# Altium integrated library Microchip Power Mgt MOSFET Driver.IntLib: 445 symbols (part 6 of 10)
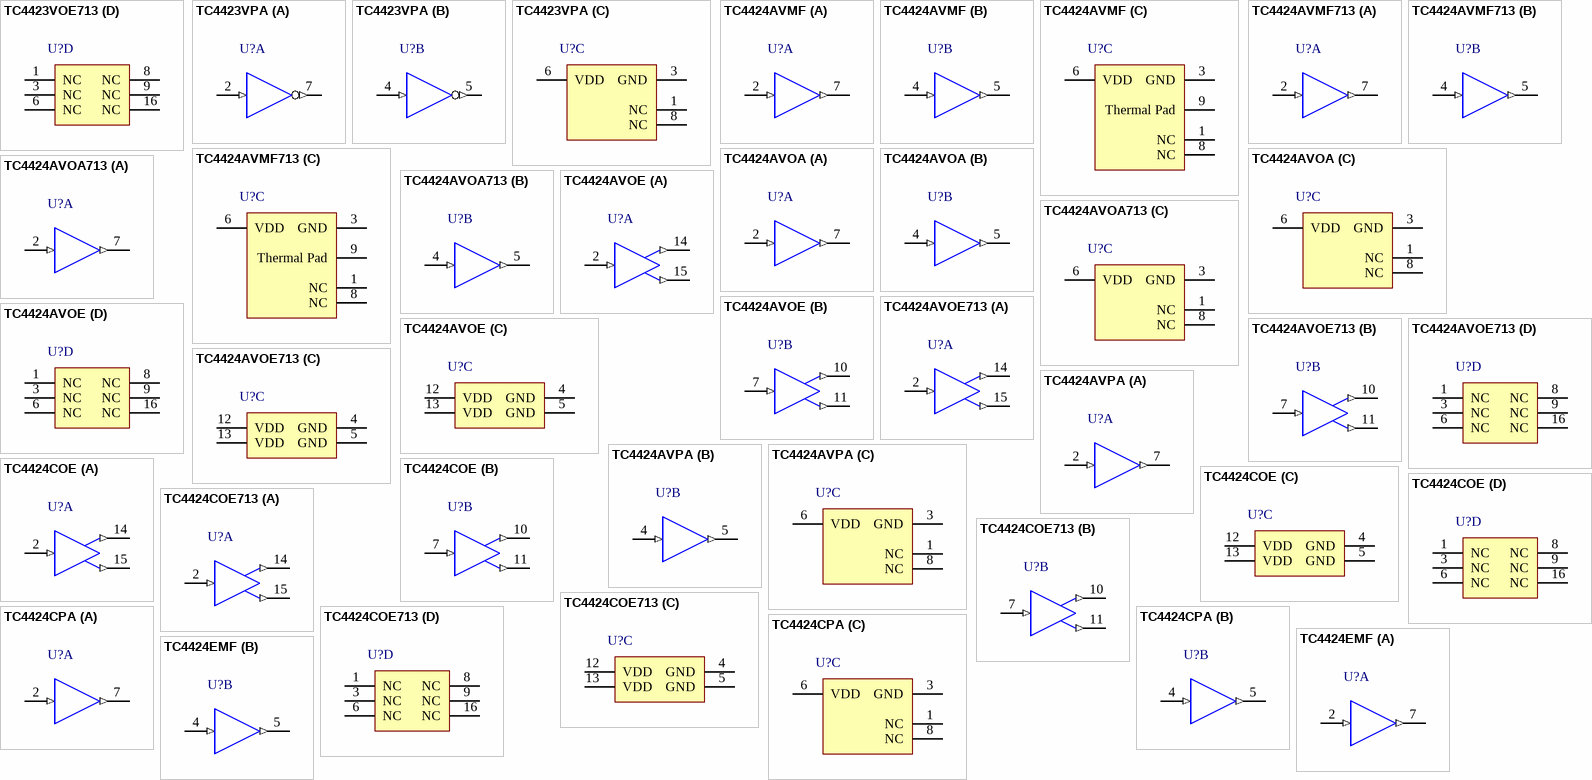
[diagram p33: symbols TC4423VOE713 to TC4424EMF]

## TC4424AVOA
designator U?
3A Dual High-Speed Power MOSFET Drivers, Non Inverting, Extended Temperature; Published: 29-Jan-2009; DatasheetVersion: revB, Apr-2007; PackageVersion: revAW, Oct-2008; PackageReference: SOIC-OA8; Publisher: Altium Limited; PackageDescription: 8-Lead Plastic Small Outline (OA) - Narrow, 3.90mm Body [SOIC]; Code_IPC: SOIC127P600-8; ComponentLink1Description: Manufacturer Link; ComponentLink1URL: http://www.microchip.com; ComponentLink2Description: Datasheet; ComponentLink2URL: http://ww1.microchip.com/downloads/en/DeviceDoc/21998b.pdf; ComponentLink3Description: Packaging Specification; ComponentLink3URL: http://ww1.microchip.com/downloads/en/PackagingSpec/00049AW.pdf
footprint SOIC-OA8_N (SOIC, 8-Leads, Body 4.9x3.9mm, Pitch 1.27mm, IPC Medium Density)
footprint SOIC-OA8_L (SOIC, 8-Leads, Body 4.9x3.9mm, Pitch 1.27mm, IPC High Density)
footprint SOIC-OA8_M (SOIC, 8-Leads, Body 4.9x3.9mm, Pitch 1.27mm, IPC Low Density)
part A pins: 2 INA (in), 7 OUTA (out)
part B pins: 4 INB (in), 5 OUTB (out)
part C pins: 1 NC, 3 GND (power), 6 VDD (power), 8 NC

## TC4424AVOA713
designator U?
3A Dual High-Speed Power MOSFET Drivers, Non Inverting, Extended Temperature, Tape and Reel; Published: 29-Jan-2009; DatasheetVersion: revB, Apr-2007; PackageVersion: revAW, Oct-2008; PackageReference: SOIC-OA8; Publisher: Altium Limited; PackageDescription: 8-Lead Plastic Small Outline (OA) - Narrow, 3.90mm Body [SOIC]; Code_IPC: SOIC127P600-8; ComponentLink1Description: Manufacturer Link; ComponentLink1URL: http://www.microchip.com; ComponentLink2Description: Datasheet; ComponentLink2URL: http://ww1.microchip.com/downloads/en/DeviceDoc/21998b.pdf; ComponentLink3Description: Packaging Specification; ComponentLink3URL: http://ww1.microchip.com/downloads/en/PackagingSpec/00049AW.pdf
footprint SOIC-OA8_N (SOIC, 8-Leads, Body 4.9x3.9mm, Pitch 1.27mm, IPC Medium Density)
footprint SOIC-OA8_L (SOIC, 8-Leads, Body 4.9x3.9mm, Pitch 1.27mm, IPC High Density)
footprint SOIC-OA8_M (SOIC, 8-Leads, Body 4.9x3.9mm, Pitch 1.27mm, IPC Low Density)
part A pins: 2 INA (in), 7 OUTA (out)
part B pins: 4 INB (in), 5 OUTB (out)
part C pins: 1 NC, 3 GND (power), 6 VDD (power), 8 NC

## TC4424AVOE
designator U?
3A Dual High-Speed Power MOSFET Drivers, Non Inverting, Extended Temperature; Published: 29-Jan-2009; DatasheetVersion: revB, Apr-2007; PackageVersion: revAW, Oct-2008; PackageReference: SOIC-OE16; Publisher: Altium Limited; PackageDescription: 16-Lead Plastic Small Outline (OE) - Wide 7.50mm Body [SOIC]; Code_JEDEC: MS-013-AA; Code_IPC: SOIC127P1030-16; ComponentLink1Description: Manufacturer Link; ComponentLink1URL: http://www.microchip.com; ComponentLink2Description: Datasheet; ComponentLink2URL: http://ww1.microchip.com/downloads/en/DeviceDoc/21998b.pdf; ComponentLink3Description: Packaging Specification; ComponentLink3URL: http://ww1.microchip.com/downloads/en/PackagingSpec/00049AW.pdf
footprint SOIC-OE16_N (SOIC, 16-Leads, Body 10.3x7.5mm, Pitch 1.27mm, IPC Medium Density)
footprint SOIC-OE16_L (SOIC, 16-Leads, Body 10.3x7.5mm, Pitch 1.27mm, IPC High Density)
footprint SOIC-OE16_M (SOIC, 16-Leads, Body 10.3x7.5mm, Pitch 1.27mm, IPC Low Density)
part A pins: 2 INA (in), 14 OUTA (out), 15 OUTA (out)
part B pins: 7 INB (in), 10 OUTB (out), 11 OUTB (out)
part C pins: 4 GND (power), 5 GND (power), 12 VDD (power), 13 VDD (power)
part D pins: 1 NC, 3 NC, 6 NC, 8 NC, 9 NC, 16 NC

## TC4424AVOE713
designator U?
3A Dual High-Speed Power MOSFET Drivers, Non Inverting, Extended Temperature, Tape and Reel; Published: 29-Jan-2009; DatasheetVersion: revB, Apr-2007; PackageVersion: revAW, Oct-2008; PackageReference: SOIC-OE16; Publisher: Altium Limited; PackageDescription: 16-Lead Plastic Small Outline (OE) - Wide 7.50mm Body [SOIC]; Code_JEDEC: MS-013-AA; Code_IPC: SOIC127P1030-16; ComponentLink1Description: Manufacturer Link; ComponentLink1URL: http://www.microchip.com; ComponentLink2Description: Datasheet; ComponentLink2URL: http://ww1.microchip.com/downloads/en/DeviceDoc/21998b.pdf; ComponentLink3Description: Packaging Specification; ComponentLink3URL: http://ww1.microchip.com/downloads/en/PackagingSpec/00049AW.pdf
footprint SOIC-OE16_N (SOIC, 16-Leads, Body 10.3x7.5mm, Pitch 1.27mm, IPC Medium Density)
footprint SOIC-OE16_L (SOIC, 16-Leads, Body 10.3x7.5mm, Pitch 1.27mm, IPC High Density)
footprint SOIC-OE16_M (SOIC, 16-Leads, Body 10.3x7.5mm, Pitch 1.27mm, IPC Low Density)
part A pins: 2 INA (in), 14 OUTA (out), 15 OUTA (out)
part B pins: 7 INB (in), 10 OUTB (out), 11 OUTB (out)
part C pins: 4 GND (power), 5 GND (power), 12 VDD (power), 13 VDD (power)
part D pins: 1 NC, 3 NC, 6 NC, 8 NC, 9 NC, 16 NC

## TC4424AVPA
designator U?
3A Dual High-Speed Power MOSFET Drivers, Non Inverting, Extended Temperature; Published: 29-Jan-2009; DatasheetVersion: revB, Apr-2007; PackageVersion: revAW, Oct-2008; PackageReference: PDIP300-PA8; Publisher: Altium Limited; PackageDescription: 8-Lead Plastic Dual In-Line (PA) - 300 mil Body [PDIP]; Code_JEDEC: MS-001-BA; ComponentLink1Description: Manufacturer Link; ComponentLink1URL: http://www.microchip.com; ComponentLink2Description: Datasheet; ComponentLink2URL: http://ww1.microchip.com/downloads/en/DeviceDoc/21998b.pdf; ComponentLink3Description: Packaging Specification; ComponentLink3URL: http://ww1.microchip.com/downloads/en/PackagingSpec/00049AW.pdf
footprint PDIP300-PA8 (DIP, 8-Leads, Row Spacing 7.62mm, Pitch 2.54mm, Body 9.5x6.6mm)
part A pins: 2 INA (in), 7 OUTA (out)
part B pins: 4 INB (in), 5 OUTB (out)
part C pins: 1 NC, 3 GND (power), 6 VDD (power), 8 NC

## TC4424COE
designator U?
3A Dual High-Speed Power MOSFET Driver, Non-Inverting, Commercial Temperature; Published: 29-Jan-2009; DatasheetVersion: rev D, Sep-2004; PackageVersion: revAW, Oct-2008; PackageReference: SOIC-OE16; Publisher: Altium Limited; PackageDescription: 16-Lead Plastic Small Outline (OE) - Wide 7.50mm Body [SOIC]; Code_JEDEC: MS-013-AA; Code_IPC: SOIC127P1030-16; ComponentLink1Description: Manufacturer Link; ComponentLink1URL: http://www.microchip.com; ComponentLink2Description: Datasheet; ComponentLink2URL: http://ww1.microchip.com/downloads/en/DeviceDoc/21421d.pdf; ComponentLink3Description: Packaging Specification; ComponentLink3URL: http://ww1.microchip.com/downloads/en/PackagingSpec/00049AW.pdf
footprint SOIC-OE16_N (SOIC, 16-Leads, Body 10.3x7.5mm, Pitch 1.27mm, IPC Medium Density)
footprint SOIC-OE16_L (SOIC, 16-Leads, Body 10.3x7.5mm, Pitch 1.27mm, IPC High Density)
footprint SOIC-OE16_M (SOIC, 16-Leads, Body 10.3x7.5mm, Pitch 1.27mm, IPC Low Density)
part A pins: 2 INA (in), 14 OUTA (out), 15 OUTA (out)
part B pins: 7 INB (in), 10 OUTB (out), 11 OUTB (out)
part C pins: 4 GND (power), 5 GND (power), 12 VDD (power), 13 VDD (power)
part D pins: 1 NC, 3 NC, 6 NC, 8 NC, 9 NC, 16 NC

## TC4424COE713
designator U?
3A Dual High-Speed Power MOSFET Driver, Non-Inverting, Commercial Temperature, Tape and Reel; Published: 29-Jan-2009; DatasheetVersion: rev D, Sep-2004; PackageVersion: revAW, Oct-2008; PackageReference: SOIC-OE16; Publisher: Altium Limited; PackageDescription: 16-Lead Plastic Small Outline (OE) - Wide 7.50mm Body [SOIC]; Code_JEDEC: MS-013-AA; Code_IPC: SOIC127P1030-16; ComponentLink1Description: Manufacturer Link; ComponentLink1URL: http://www.microchip.com; ComponentLink2Description: Datasheet; ComponentLink2URL: http://ww1.microchip.com/downloads/en/DeviceDoc/21421d.pdf; ComponentLink3Description: Packaging Specification; ComponentLink3URL: http://ww1.microchip.com/downloads/en/PackagingSpec/00049AW.pdf
footprint SOIC-OE16_N (SOIC, 16-Leads, Body 10.3x7.5mm, Pitch 1.27mm, IPC Medium Density)
footprint SOIC-OE16_L (SOIC, 16-Leads, Body 10.3x7.5mm, Pitch 1.27mm, IPC High Density)
footprint SOIC-OE16_M (SOIC, 16-Leads, Body 10.3x7.5mm, Pitch 1.27mm, IPC Low Density)
part A pins: 2 INA (in), 14 OUTA (out), 15 OUTA (out)
part B pins: 7 INB (in), 10 OUTB (out), 11 OUTB (out)
part C pins: 4 GND (power), 5 GND (power), 12 VDD (power), 13 VDD (power)
part D pins: 1 NC, 3 NC, 6 NC, 8 NC, 9 NC, 16 NC

## TC4424CPA
designator U?
3A Dual High-Speed Power MOSFET Driver, Non-Inverting, Commercial Temperature; Published: 29-Jan-2009; DatasheetVersion: rev D, Sep-2004; PackageVersion: revAW, Oct-2008; PackageReference: PDIP300-PA8; Publisher: Altium Limited; PackageDescription: 8-Lead Plastic Dual In-Line (PA) - 300 mil Body [PDIP]; Code_JEDEC: MS-001-BA; ComponentLink1Description: Manufacturer Link; ComponentLink1URL: http://www.microchip.com; ComponentLink2Description: Datasheet; ComponentLink2URL: http://ww1.microchip.com/downloads/en/DeviceDoc/21421d.pdf; ComponentLink3Description: Packaging Specification; ComponentLink3URL: http://ww1.microchip.com/downloads/en/PackagingSpec/00049AW.pdf
footprint PDIP300-PA8 (DIP, 8-Leads, Row Spacing 7.62mm, Pitch 2.54mm, Body 9.5x6.6mm)
part A pins: 2 INA (in), 7 OUTA (out)
part B pins: 4 INB (in), 5 OUTB (out)
part C pins: 1 NC, 3 GND (power), 6 VDD (power), 8 NC

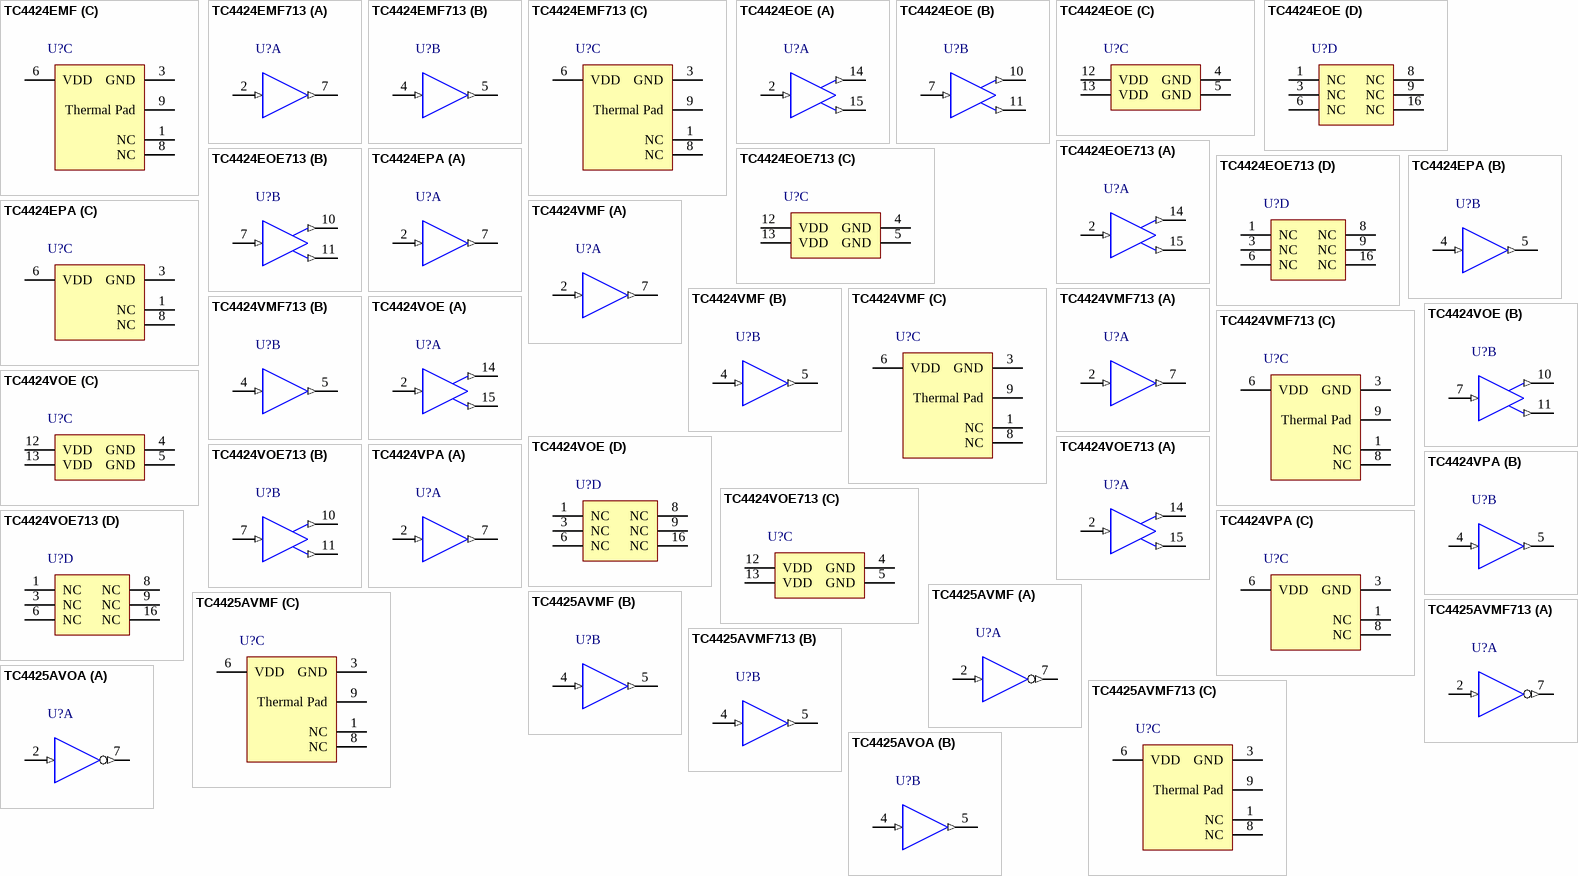
[diagram p15: symbols TC4424EMF to TC4425AVOA]

## TC4424EMF
designator U?
3A Dual High-Speed Power MOSFET Driver, Non-Inverting, Industrial Temperature; Published: 29-Jan-2009; DatasheetVersion: rev D, Sep-2004; PackageVersion: revAW, Oct-2008; PackageReference: DFN-MF8; Publisher: Altium Limited; PackageDescription: 8-Lead Plastic Dual Flat, No Lead Package (MF) - 3x3x0.9mm Body [DFN]; ComponentLink1Description: Manufacturer Link; ComponentLink1URL: http://www.microchip.com; ComponentLink2Description: Datasheet; ComponentLink2URL: http://ww1.microchip.com/downloads/en/DeviceDoc/21421d.pdf; ComponentLink3Description: Packaging Specification; ComponentLink3URL: http://ww1.microchip.com/downloads/en/PackagingSpec/00049AW.pdf
footprint DFN-MF8 (SON, 8-Leads, Body 3x3mm, Pitch 0.65mm, Microchip Recommended)
part A pins: 2 INA (in), 7 OUTA (out)
part B pins: 4 INB (in), 5 OUTB (out)
part C pins: 1 NC, 3 GND (power), 6 VDD (power), 8 NC, 9 Thermal Pad

## TC4424EMF713
designator U?
3A Dual High-Speed Power MOSFET Driver, Non-Inverting, Industrial Temperature, Tape and Reel; Published: 29-Jan-2009; DatasheetVersion: rev D, Sep-2004; PackageVersion: revAW, Oct-2008; PackageReference: DFN-MF8; Publisher: Altium Limited; PackageDescription: 8-Lead Plastic Dual Flat, No Lead Package (MF) - 3x3x0.9mm Body [DFN]; ComponentLink1Description: Manufacturer Link; ComponentLink1URL: http://www.microchip.com; ComponentLink2Description: Datasheet; ComponentLink2URL: http://ww1.microchip.com/downloads/en/DeviceDoc/21421d.pdf; ComponentLink3Description: Packaging Specification; ComponentLink3URL: http://ww1.microchip.com/downloads/en/PackagingSpec/00049AW.pdf
footprint DFN-MF8 (SON, 8-Leads, Body 3x3mm, Pitch 0.65mm, Microchip Recommended)
part A pins: 2 INA (in), 7 OUTA (out)
part B pins: 4 INB (in), 5 OUTB (out)
part C pins: 1 NC, 3 GND (power), 6 VDD (power), 8 NC, 9 Thermal Pad

## TC4424EOE
designator U?
3A Dual High-Speed Power MOSFET Driver, Non-Inverting, Industrial Temperature; Published: 29-Jan-2009; DatasheetVersion: rev D, Sep-2004; PackageVersion: revAW, Oct-2008; PackageReference: SOIC-OE16; Publisher: Altium Limited; PackageDescription: 16-Lead Plastic Small Outline (OE) - Wide 7.50mm Body [SOIC]; Code_JEDEC: MS-013-AA; Code_IPC: SOIC127P1030-16; ComponentLink1Description: Manufacturer Link; ComponentLink1URL: http://www.microchip.com; ComponentLink2Description: Datasheet; ComponentLink2URL: http://ww1.microchip.com/downloads/en/DeviceDoc/21421d.pdf; ComponentLink3Description: Packaging Specification; ComponentLink3URL: http://ww1.microchip.com/downloads/en/PackagingSpec/00049AW.pdf
footprint SOIC-OE16_N (SOIC, 16-Leads, Body 10.3x7.5mm, Pitch 1.27mm, IPC Medium Density)
footprint SOIC-OE16_L (SOIC, 16-Leads, Body 10.3x7.5mm, Pitch 1.27mm, IPC High Density)
footprint SOIC-OE16_M (SOIC, 16-Leads, Body 10.3x7.5mm, Pitch 1.27mm, IPC Low Density)
part A pins: 2 INA (in), 14 OUTA (out), 15 OUTA (out)
part B pins: 7 INB (in), 10 OUTB (out), 11 OUTB (out)
part C pins: 4 GND (power), 5 GND (power), 12 VDD (power), 13 VDD (power)
part D pins: 1 NC, 3 NC, 6 NC, 8 NC, 9 NC, 16 NC

## TC4424EOE713
designator U?
3A Dual High-Speed Power MOSFET Driver, Non-Inverting, Industrial Temperature, Tape and Reel; Published: 29-Jan-2009; DatasheetVersion: rev D, Sep-2004; PackageVersion: revAW, Oct-2008; PackageReference: SOIC-OE16; Publisher: Altium Limited; PackageDescription: 16-Lead Plastic Small Outline (OE) - Wide 7.50mm Body [SOIC]; Code_JEDEC: MS-013-AA; Code_IPC: SOIC127P1030-16; ComponentLink1Description: Manufacturer Link; ComponentLink1URL: http://www.microchip.com; ComponentLink2Description: Datasheet; ComponentLink2URL: http://ww1.microchip.com/downloads/en/DeviceDoc/21421d.pdf; ComponentLink3Description: Packaging Specification; ComponentLink3URL: http://ww1.microchip.com/downloads/en/PackagingSpec/00049AW.pdf
footprint SOIC-OE16_N (SOIC, 16-Leads, Body 10.3x7.5mm, Pitch 1.27mm, IPC Medium Density)
footprint SOIC-OE16_L (SOIC, 16-Leads, Body 10.3x7.5mm, Pitch 1.27mm, IPC High Density)
footprint SOIC-OE16_M (SOIC, 16-Leads, Body 10.3x7.5mm, Pitch 1.27mm, IPC Low Density)
part A pins: 2 INA (in), 14 OUTA (out), 15 OUTA (out)
part B pins: 7 INB (in), 10 OUTB (out), 11 OUTB (out)
part C pins: 4 GND (power), 5 GND (power), 12 VDD (power), 13 VDD (power)
part D pins: 1 NC, 3 NC, 6 NC, 8 NC, 9 NC, 16 NC

## TC4424EPA
designator U?
3A Dual High-Speed Power MOSFET Driver, Non-Inverting, Industrial Temperature; Published: 29-Jan-2009; DatasheetVersion: rev D, Sep-2004; PackageVersion: revAW, Oct-2008; PackageReference: PDIP300-PA8; Publisher: Altium Limited; PackageDescription: 8-Lead Plastic Dual In-Line (PA) - 300 mil Body [PDIP]; Code_JEDEC: MS-001-BA; ComponentLink1Description: Manufacturer Link; ComponentLink1URL: http://www.microchip.com; ComponentLink2Description: Datasheet; ComponentLink2URL: http://ww1.microchip.com/downloads/en/DeviceDoc/21421d.pdf; ComponentLink3Description: Packaging Specification; ComponentLink3URL: http://ww1.microchip.com/downloads/en/PackagingSpec/00049AW.pdf
footprint PDIP300-PA8 (DIP, 8-Leads, Row Spacing 7.62mm, Pitch 2.54mm, Body 9.5x6.6mm)
part A pins: 2 INA (in), 7 OUTA (out)
part B pins: 4 INB (in), 5 OUTB (out)
part C pins: 1 NC, 3 GND (power), 6 VDD (power), 8 NC

## TC4424VMF
designator U?
3A Dual High-Speed Power MOSFET Driver, Non-Inverting, Extended Temperature; Published: 29-Jan-2009; DatasheetVersion: rev D, Sep-2004; PackageVersion: revAW, Oct-2008; PackageReference: DFN-MF8; Publisher: Altium Limited; PackageDescription: 8-Lead Plastic Dual Flat, No Lead Package (MF) - 3x3x0.9mm Body [DFN]; ComponentLink1Description: Manufacturer Link; ComponentLink1URL: http://www.microchip.com; ComponentLink2Description: Datasheet; ComponentLink2URL: http://ww1.microchip.com/downloads/en/DeviceDoc/21421d.pdf; ComponentLink3Description: Packaging Specification; ComponentLink3URL: http://ww1.microchip.com/downloads/en/PackagingSpec/00049AW.pdf
footprint DFN-MF8 (SON, 8-Leads, Body 3x3mm, Pitch 0.65mm, Microchip Recommended)
part A pins: 2 INA (in), 7 OUTA (out)
part B pins: 4 INB (in), 5 OUTB (out)
part C pins: 1 NC, 3 GND (power), 6 VDD (power), 8 NC, 9 Thermal Pad

## TC4424VMF713
designator U?
3A Dual High-Speed Power MOSFET Driver, Non-Inverting, Extended Temperature, Tape and Reel; Published: 29-Jan-2009; DatasheetVersion: rev D, Sep-2004; PackageVersion: revAW, Oct-2008; PackageReference: DFN-MF8; Publisher: Altium Limited; PackageDescription: 8-Lead Plastic Dual Flat, No Lead Package (MF) - 3x3x0.9mm Body [DFN]; ComponentLink1Description: Manufacturer Link; ComponentLink1URL: http://www.microchip.com; ComponentLink2Description: Datasheet; ComponentLink2URL: http://ww1.microchip.com/downloads/en/DeviceDoc/21421d.pdf; ComponentLink3Description: Packaging Specification; ComponentLink3URL: http://ww1.microchip.com/downloads/en/PackagingSpec/00049AW.pdf
footprint DFN-MF8 (SON, 8-Leads, Body 3x3mm, Pitch 0.65mm, Microchip Recommended)
part A pins: 2 INA (in), 7 OUTA (out)
part B pins: 4 INB (in), 5 OUTB (out)
part C pins: 1 NC, 3 GND (power), 6 VDD (power), 8 NC, 9 Thermal Pad

## TC4424VOE
designator U?
3A Dual High-Speed Power MOSFET Driver, Non-Inverting, Extended Temperature; Published: 29-Jan-2009; DatasheetVersion: rev D, Sep-2004; PackageVersion: revAW, Oct-2008; PackageReference: SOIC-OE16; Publisher: Altium Limited; PackageDescription: 16-Lead Plastic Small Outline (OE) - Wide 7.50mm Body [SOIC]; Code_JEDEC: MS-013-AA; Code_IPC: SOIC127P1030-16; ComponentLink1Description: Manufacturer Link; ComponentLink1URL: http://www.microchip.com; ComponentLink2Description: Datasheet; ComponentLink2URL: http://ww1.microchip.com/downloads/en/DeviceDoc/21421d.pdf; ComponentLink3Description: Packaging Specification; ComponentLink3URL: http://ww1.microchip.com/downloads/en/PackagingSpec/00049AW.pdf
footprint SOIC-OE16_N (SOIC, 16-Leads, Body 10.3x7.5mm, Pitch 1.27mm, IPC Medium Density)
footprint SOIC-OE16_L (SOIC, 16-Leads, Body 10.3x7.5mm, Pitch 1.27mm, IPC High Density)
footprint SOIC-OE16_M (SOIC, 16-Leads, Body 10.3x7.5mm, Pitch 1.27mm, IPC Low Density)
part A pins: 2 INA (in), 14 OUTA (out), 15 OUTA (out)
part B pins: 7 INB (in), 10 OUTB (out), 11 OUTB (out)
part C pins: 4 GND (power), 5 GND (power), 12 VDD (power), 13 VDD (power)
part D pins: 1 NC, 3 NC, 6 NC, 8 NC, 9 NC, 16 NC

## TC4424VOE713
designator U?
3A Dual High-Speed Power MOSFET Driver, Non-Inverting, Extended Temperature, Tape and Reel; Published: 29-Jan-2009; DatasheetVersion: rev D, Sep-2004; PackageVersion: revAW, Oct-2008; PackageReference: SOIC-OE16; Publisher: Altium Limited; PackageDescription: 16-Lead Plastic Small Outline (OE) - Wide 7.50mm Body [SOIC]; Code_JEDEC: MS-013-AA; Code_IPC: SOIC127P1030-16; ComponentLink1Description: Manufacturer Link; ComponentLink1URL: http://www.microchip.com; ComponentLink2Description: Datasheet; ComponentLink2URL: http://ww1.microchip.com/downloads/en/DeviceDoc/21421d.pdf; ComponentLink3Description: Packaging Specification; ComponentLink3URL: http://ww1.microchip.com/downloads/en/PackagingSpec/00049AW.pdf
footprint SOIC-OE16_N (SOIC, 16-Leads, Body 10.3x7.5mm, Pitch 1.27mm, IPC Medium Density)
footprint SOIC-OE16_L (SOIC, 16-Leads, Body 10.3x7.5mm, Pitch 1.27mm, IPC High Density)
footprint SOIC-OE16_M (SOIC, 16-Leads, Body 10.3x7.5mm, Pitch 1.27mm, IPC Low Density)
part A pins: 2 INA (in), 14 OUTA (out), 15 OUTA (out)
part B pins: 7 INB (in), 10 OUTB (out), 11 OUTB (out)
part C pins: 4 GND (power), 5 GND (power), 12 VDD (power), 13 VDD (power)
part D pins: 1 NC, 3 NC, 6 NC, 8 NC, 9 NC, 16 NC

## TC4424VPA
designator U?
3A Dual High-Speed Power MOSFET Driver, Non-Inverting, Extended Temperature; Published: 29-Jan-2009; DatasheetVersion: rev D, Sep-2004; PackageVersion: revAW, Oct-2008; PackageReference: PDIP300-PA8; Publisher: Altium Limited; PackageDescription: 8-Lead Plastic Dual In-Line (PA) - 300 mil Body [PDIP]; Code_JEDEC: MS-001-BA; ComponentLink1Description: Manufacturer Link; ComponentLink1URL: http://www.microchip.com; ComponentLink2Description: Datasheet; ComponentLink2URL: http://ww1.microchip.com/downloads/en/DeviceDoc/21421d.pdf; ComponentLink3Description: Packaging Specification; ComponentLink3URL: http://ww1.microchip.com/downloads/en/PackagingSpec/00049AW.pdf
footprint PDIP300-PA8 (DIP, 8-Leads, Row Spacing 7.62mm, Pitch 2.54mm, Body 9.5x6.6mm)
part A pins: 2 INA (in), 7 OUTA (out)
part B pins: 4 INB (in), 5 OUTB (out)
part C pins: 1 NC, 3 GND (power), 6 VDD (power), 8 NC

## TC4425AVMF
designator U?
3A Dual High-Speed Power MOSFET Drivers, Complimentary, Extended Temperature; Published: 29-Jan-2009; DatasheetVersion: revB, Apr-2007; PackageVersion: revAW, Oct-2008; PackageReference: DFN-MF8; Publisher: Altium Limited; PackageDescription: 8-Lead Plastic Dual Flat, No Lead Package (MF) - 3x3x0.9mm Body [DFN]; ComponentLink1Description: Manufacturer Link; ComponentLink1URL: http://www.microchip.com; ComponentLink2Description: Datasheet; ComponentLink2URL: http://ww1.microchip.com/downloads/en/DeviceDoc/21998b.pdf; ComponentLink3Description: Packaging Specification; ComponentLink3URL: http://ww1.microchip.com/downloads/en/PackagingSpec/00049AW.pdf
footprint DFN-MF8 (SON, 8-Leads, Body 3x3mm, Pitch 0.65mm, Microchip Recommended)
part A pins: 2 INA (in), 7 ~{OUTA} (out)
part B pins: 4 INB (in), 5 OUTB (out)
part C pins: 1 NC, 3 GND (power), 6 VDD (power), 8 NC, 9 Thermal Pad

## TC4425AVMF713
designator U?
3A Dual High-Speed Power MOSFET Drivers, Complimentary, Extended Temperature, Tape and Reel; Published: 29-Jan-2009; DatasheetVersion: revB, Apr-2007; PackageVersion: revAW, Oct-2008; PackageReference: DFN-MF8; Publisher: Altium Limited; PackageDescription: 8-Lead Plastic Dual Flat, No Lead Package (MF) - 3x3x0.9mm Body [DFN]; ComponentLink1Description: Manufacturer Link; ComponentLink1URL: http://www.microchip.com; ComponentLink2Description: Datasheet; ComponentLink2URL: http://ww1.microchip.com/downloads/en/DeviceDoc/21998b.pdf; ComponentLink3Description: Packaging Specification; ComponentLink3URL: http://ww1.microchip.com/downloads/en/PackagingSpec/00049AW.pdf
footprint DFN-MF8 (SON, 8-Leads, Body 3x3mm, Pitch 0.65mm, Microchip Recommended)
part A pins: 2 INA (in), 7 ~{OUTA} (out)
part B pins: 4 INB (in), 5 OUTB (out)
part C pins: 1 NC, 3 GND (power), 6 VDD (power), 8 NC, 9 Thermal Pad

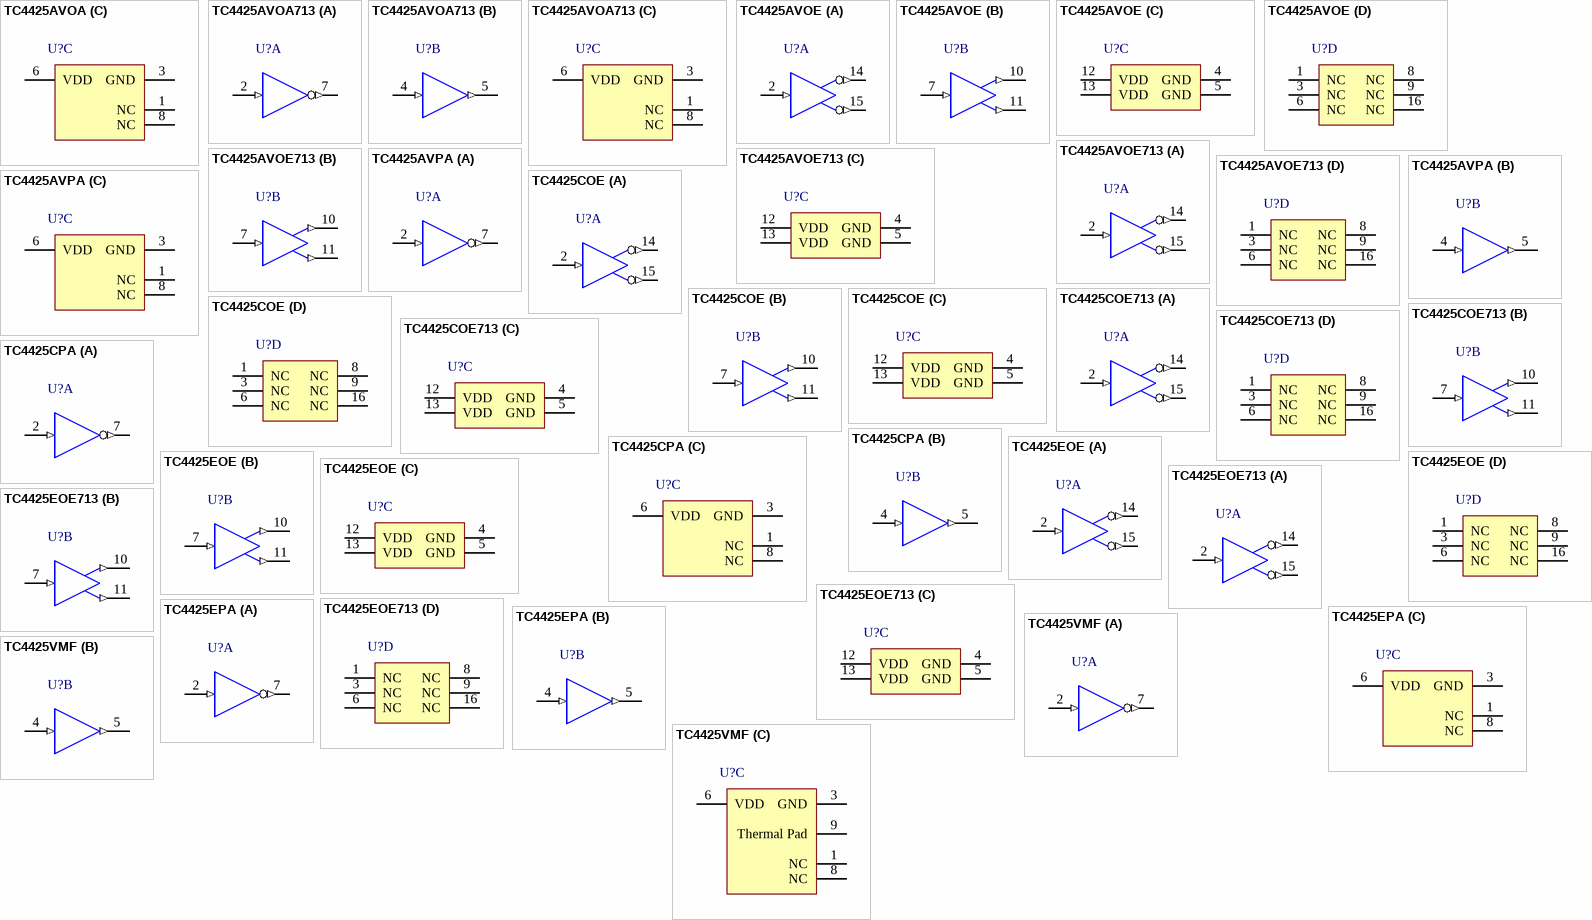
[diagram p16: symbols TC4425AVOA to TC4425VMF]

## TC4425AVOA
designator U?
3A Dual High-Speed Power MOSFET Drivers, Complimentary, Extended Temperature; Published: 29-Jan-2009; DatasheetVersion: revB, Apr-2007; PackageVersion: revAW, Oct-2008; PackageReference: SOIC-OA8; Publisher: Altium Limited; PackageDescription: 8-Lead Plastic Small Outline (OA) - Narrow, 3.90mm Body [SOIC]; Code_IPC: SOIC127P600-8; ComponentLink1Description: Manufacturer Link; ComponentLink1URL: http://www.microchip.com; ComponentLink2Description: Datasheet; ComponentLink2URL: http://ww1.microchip.com/downloads/en/DeviceDoc/21998b.pdf; ComponentLink3Description: Packaging Specification; ComponentLink3URL: http://ww1.microchip.com/downloads/en/PackagingSpec/00049AW.pdf
footprint SOIC-OA8_N (SOIC, 8-Leads, Body 4.9x3.9mm, Pitch 1.27mm, IPC Medium Density)
footprint SOIC-OA8_L (SOIC, 8-Leads, Body 4.9x3.9mm, Pitch 1.27mm, IPC High Density)
footprint SOIC-OA8_M (SOIC, 8-Leads, Body 4.9x3.9mm, Pitch 1.27mm, IPC Low Density)
part A pins: 2 INA (in), 7 ~{OUTA} (out)
part B pins: 4 INB (in), 5 OUTB (out)
part C pins: 1 NC, 3 GND (power), 6 VDD (power), 8 NC

## TC4425AVOA713
designator U?
3A Dual High-Speed Power MOSFET Drivers, Complimentary, Extended Temperature, Tape and Reel; Published: 29-Jan-2009; DatasheetVersion: revB, Apr-2007; PackageVersion: revAW, Oct-2008; PackageReference: SOIC-OA8; Publisher: Altium Limited; PackageDescription: 8-Lead Plastic Small Outline (OA) - Narrow, 3.90mm Body [SOIC]; Code_IPC: SOIC127P600-8; ComponentLink1Description: Manufacturer Link; ComponentLink1URL: http://www.microchip.com; ComponentLink2Description: Datasheet; ComponentLink2URL: http://ww1.microchip.com/downloads/en/DeviceDoc/21998b.pdf; ComponentLink3Description: Packaging Specification; ComponentLink3URL: http://ww1.microchip.com/downloads/en/PackagingSpec/00049AW.pdf
footprint SOIC-OA8_N (SOIC, 8-Leads, Body 4.9x3.9mm, Pitch 1.27mm, IPC Medium Density)
footprint SOIC-OA8_L (SOIC, 8-Leads, Body 4.9x3.9mm, Pitch 1.27mm, IPC High Density)
footprint SOIC-OA8_M (SOIC, 8-Leads, Body 4.9x3.9mm, Pitch 1.27mm, IPC Low Density)
part A pins: 2 INA (in), 7 ~{OUTA} (out)
part B pins: 4 INB (in), 5 OUTB (out)
part C pins: 1 NC, 3 GND (power), 6 VDD (power), 8 NC

## TC4425AVOE
designator U?
3A Dual High-Speed Power MOSFET Drivers, Complimentary, Extended Temperature; Published: 29-Jan-2009; DatasheetVersion: revB, Apr-2007; PackageVersion: revAW, Oct-2008; PackageReference: SOIC-OE16; Publisher: Altium Limited; PackageDescription: 16-Lead Plastic Small Outline (OE) - Wide 7.50mm Body [SOIC]; Code_JEDEC: MS-013-AA; Code_IPC: SOIC127P1030-16; ComponentLink1Description: Manufacturer Link; ComponentLink1URL: http://www.microchip.com; ComponentLink2Description: Datasheet; ComponentLink2URL: http://ww1.microchip.com/downloads/en/DeviceDoc/21998b.pdf; ComponentLink3Description: Packaging Specification; ComponentLink3URL: http://ww1.microchip.com/downloads/en/PackagingSpec/00049AW.pdf
footprint SOIC-OE16_N (SOIC, 16-Leads, Body 10.3x7.5mm, Pitch 1.27mm, IPC Medium Density)
footprint SOIC-OE16_L (SOIC, 16-Leads, Body 10.3x7.5mm, Pitch 1.27mm, IPC High Density)
footprint SOIC-OE16_M (SOIC, 16-Leads, Body 10.3x7.5mm, Pitch 1.27mm, IPC Low Density)
part A pins: 2 INA (in), 14 ~{OUTA} (out), 15 ~{OUTA} (out)
part B pins: 7 INB (in), 10 OUTB (out), 11 OUTB (out)
part C pins: 4 GND (power), 5 GND (power), 12 VDD (power), 13 VDD (power)
part D pins: 1 NC, 3 NC, 6 NC, 8 NC, 9 NC, 16 NC

## TC4425AVOE713
designator U?
3A Dual High-Speed Power MOSFET Drivers, Complimentary, Extended Temperature, Tape and Reel; Published: 29-Jan-2009; DatasheetVersion: revB, Apr-2007; PackageVersion: revAW, Oct-2008; PackageReference: SOIC-OE16; Publisher: Altium Limited; PackageDescription: 16-Lead Plastic Small Outline (OE) - Wide 7.50mm Body [SOIC]; Code_JEDEC: MS-013-AA; Code_IPC: SOIC127P1030-16; ComponentLink1Description: Manufacturer Link; ComponentLink1URL: http://www.microchip.com; ComponentLink2Description: Datasheet; ComponentLink2URL: http://ww1.microchip.com/downloads/en/DeviceDoc/21998b.pdf; ComponentLink3Description: Packaging Specification; ComponentLink3URL: http://ww1.microchip.com/downloads/en/PackagingSpec/00049AW.pdf
footprint SOIC-OE16_N (SOIC, 16-Leads, Body 10.3x7.5mm, Pitch 1.27mm, IPC Medium Density)
footprint SOIC-OE16_L (SOIC, 16-Leads, Body 10.3x7.5mm, Pitch 1.27mm, IPC High Density)
footprint SOIC-OE16_M (SOIC, 16-Leads, Body 10.3x7.5mm, Pitch 1.27mm, IPC Low Density)
part A pins: 2 INA (in), 14 ~{OUTA} (out), 15 ~{OUTA} (out)
part B pins: 7 INB (in), 10 OUTB (out), 11 OUTB (out)
part C pins: 4 GND (power), 5 GND (power), 12 VDD (power), 13 VDD (power)
part D pins: 1 NC, 3 NC, 6 NC, 8 NC, 9 NC, 16 NC

## TC4425AVPA
designator U?
3A Dual High-Speed Power MOSFET Drivers, Complimentary, Extended Temperature; Published: 29-Jan-2009; DatasheetVersion: revB, Apr-2007; PackageVersion: revAW, Oct-2008; PackageReference: PDIP300-PA8; Publisher: Altium Limited; PackageDescription: 8-Lead Plastic Dual In-Line (PA) - 300 mil Body [PDIP]; Code_JEDEC: MS-001-BA; ComponentLink1Description: Manufacturer Link; ComponentLink1URL: http://www.microchip.com; ComponentLink2Description: Datasheet; ComponentLink2URL: http://ww1.microchip.com/downloads/en/DeviceDoc/21998b.pdf; ComponentLink3Description: Packaging Specification; ComponentLink3URL: http://ww1.microchip.com/downloads/en/PackagingSpec/00049AW.pdf
footprint PDIP300-PA8 (DIP, 8-Leads, Row Spacing 7.62mm, Pitch 2.54mm, Body 9.5x6.6mm)
part A pins: 2 INA (in), 7 ~{OUTA} (out)
part B pins: 4 INB (in), 5 OUTB (out)
part C pins: 1 NC, 3 GND (power), 6 VDD (power), 8 NC

## TC4425COE
designator U?
3A Dual High-Speed Power MOSFET Driver, Complementary, Commercial Temperature; Published: 29-Jan-2009; DatasheetVersion: rev D, Sep-2004; PackageVersion: revAW, Oct-2008; PackageReference: SOIC-OE16; Publisher: Altium Limited; PackageDescription: 16-Lead Plastic Small Outline (OE) - Wide 7.50mm Body [SOIC]; Code_JEDEC: MS-013-AA; Code_IPC: SOIC127P1030-16; ComponentLink1Description: Manufacturer Link; ComponentLink1URL: http://www.microchip.com; ComponentLink2Description: Datasheet; ComponentLink2URL: http://ww1.microchip.com/downloads/en/DeviceDoc/21421d.pdf; ComponentLink3Description: Packaging Specification; ComponentLink3URL: http://ww1.microchip.com/downloads/en/PackagingSpec/00049AW.pdf
footprint SOIC-OE16_N (SOIC, 16-Leads, Body 10.3x7.5mm, Pitch 1.27mm, IPC Medium Density)
footprint SOIC-OE16_L (SOIC, 16-Leads, Body 10.3x7.5mm, Pitch 1.27mm, IPC High Density)
footprint SOIC-OE16_M (SOIC, 16-Leads, Body 10.3x7.5mm, Pitch 1.27mm, IPC Low Density)
part A pins: 2 INA (in), 14 ~{OUTA} (out), 15 ~{OUTA} (out)
part B pins: 7 INB (in), 10 OUTB (out), 11 OUTB (out)
part C pins: 4 GND (power), 5 GND (power), 12 VDD (power), 13 VDD (power)
part D pins: 1 NC, 3 NC, 6 NC, 8 NC, 9 NC, 16 NC

## TC4425COE713
designator U?
3A Dual High-Speed Power MOSFET Driver, Complementary, Commercial Temperature, Tape and Reel; Published: 29-Jan-2009; DatasheetVersion: rev D, Sep-2004; PackageVersion: revAW, Oct-2008; PackageReference: SOIC-OE16; Publisher: Altium Limited; PackageDescription: 16-Lead Plastic Small Outline (OE) - Wide 7.50mm Body [SOIC]; Code_JEDEC: MS-013-AA; Code_IPC: SOIC127P1030-16; ComponentLink1Description: Manufacturer Link; ComponentLink1URL: http://www.microchip.com; ComponentLink2Description: Datasheet; ComponentLink2URL: http://ww1.microchip.com/downloads/en/DeviceDoc/21421d.pdf; ComponentLink3Description: Packaging Specification; ComponentLink3URL: http://ww1.microchip.com/downloads/en/PackagingSpec/00049AW.pdf
footprint SOIC-OE16_N (SOIC, 16-Leads, Body 10.3x7.5mm, Pitch 1.27mm, IPC Medium Density)
footprint SOIC-OE16_L (SOIC, 16-Leads, Body 10.3x7.5mm, Pitch 1.27mm, IPC High Density)
footprint SOIC-OE16_M (SOIC, 16-Leads, Body 10.3x7.5mm, Pitch 1.27mm, IPC Low Density)
part A pins: 2 INA (in), 14 ~{OUTA} (out), 15 ~{OUTA} (out)
part B pins: 7 INB (in), 10 OUTB (out), 11 OUTB (out)
part C pins: 4 GND (power), 5 GND (power), 12 VDD (power), 13 VDD (power)
part D pins: 1 NC, 3 NC, 6 NC, 8 NC, 9 NC, 16 NC

## TC4425CPA
designator U?
3A Dual High-Speed Power MOSFET Driver, Complementary, Commercial Temperature; Published: 29-Jan-2009; DatasheetVersion: rev D, Sep-2004; PackageVersion: revAW, Oct-2008; PackageReference: PDIP300-PA8; Publisher: Altium Limited; PackageDescription: 8-Lead Plastic Dual In-Line (PA) - 300 mil Body [PDIP]; Code_JEDEC: MS-001-BA; ComponentLink1Description: Manufacturer Link; ComponentLink1URL: http://www.microchip.com; ComponentLink2Description: Datasheet; ComponentLink2URL: http://ww1.microchip.com/downloads/en/DeviceDoc/21421d.pdf; ComponentLink3Description: Packaging Specification; ComponentLink3URL: http://ww1.microchip.com/downloads/en/PackagingSpec/00049AW.pdf
footprint PDIP300-PA8 (DIP, 8-Leads, Row Spacing 7.62mm, Pitch 2.54mm, Body 9.5x6.6mm)
part A pins: 2 INA (in), 7 ~{OUTA} (out)
part B pins: 4 INB (in), 5 OUTB (out)
part C pins: 1 NC, 3 GND (power), 6 VDD (power), 8 NC

## TC4425EOE
designator U?
3A Dual High-Speed Power MOSFET Driver, Complementary, Industrial Temperature; Published: 29-Jan-2009; DatasheetVersion: rev D, Sep-2004; PackageVersion: revAW, Oct-2008; PackageReference: SOIC-OE16; Publisher: Altium Limited; PackageDescription: 16-Lead Plastic Small Outline (OE) - Wide 7.50mm Body [SOIC]; Code_JEDEC: MS-013-AA; Code_IPC: SOIC127P1030-16; ComponentLink1Description: Manufacturer Link; ComponentLink1URL: http://www.microchip.com; ComponentLink2Description: Datasheet; ComponentLink2URL: http://ww1.microchip.com/downloads/en/DeviceDoc/21421d.pdf; ComponentLink3Description: Packaging Specification; ComponentLink3URL: http://ww1.microchip.com/downloads/en/PackagingSpec/00049AW.pdf
footprint SOIC-OE16_N (SOIC, 16-Leads, Body 10.3x7.5mm, Pitch 1.27mm, IPC Medium Density)
footprint SOIC-OE16_L (SOIC, 16-Leads, Body 10.3x7.5mm, Pitch 1.27mm, IPC High Density)
footprint SOIC-OE16_M (SOIC, 16-Leads, Body 10.3x7.5mm, Pitch 1.27mm, IPC Low Density)
part A pins: 2 INA (in), 14 ~{OUTA} (out), 15 ~{OUTA} (out)
part B pins: 7 INB (in), 10 OUTB (out), 11 OUTB (out)
part C pins: 4 GND (power), 5 GND (power), 12 VDD (power), 13 VDD (power)
part D pins: 1 NC, 3 NC, 6 NC, 8 NC, 9 NC, 16 NC

## TC4425EOE713
designator U?
3A Dual High-Speed Power MOSFET Driver, Complementary, Industrial Temperature, Tape and Reel; Published: 29-Jan-2009; DatasheetVersion: rev D, Sep-2004; PackageVersion: revAW, Oct-2008; PackageReference: SOIC-OE16; Publisher: Altium Limited; PackageDescription: 16-Lead Plastic Small Outline (OE) - Wide 7.50mm Body [SOIC]; Code_JEDEC: MS-013-AA; Code_IPC: SOIC127P1030-16; ComponentLink1Description: Manufacturer Link; ComponentLink1URL: http://www.microchip.com; ComponentLink2Description: Datasheet; ComponentLink2URL: http://ww1.microchip.com/downloads/en/DeviceDoc/21421d.pdf; ComponentLink3Description: Packaging Specification; ComponentLink3URL: http://ww1.microchip.com/downloads/en/PackagingSpec/00049AW.pdf
footprint SOIC-OE16_N (SOIC, 16-Leads, Body 10.3x7.5mm, Pitch 1.27mm, IPC Medium Density)
footprint SOIC-OE16_L (SOIC, 16-Leads, Body 10.3x7.5mm, Pitch 1.27mm, IPC High Density)
footprint SOIC-OE16_M (SOIC, 16-Leads, Body 10.3x7.5mm, Pitch 1.27mm, IPC Low Density)
part A pins: 2 INA (in), 14 ~{OUTA} (out), 15 ~{OUTA} (out)
part B pins: 7 INB (in), 10 OUTB (out), 11 OUTB (out)
part C pins: 4 GND (power), 5 GND (power), 12 VDD (power), 13 VDD (power)
part D pins: 1 NC, 3 NC, 6 NC, 8 NC, 9 NC, 16 NC

## TC4425EPA
designator U?
3A Dual High-Speed Power MOSFET Driver, Complementary, Industrial Temperature; Published: 29-Jan-2009; DatasheetVersion: rev D, Sep-2004; PackageVersion: revAW, Oct-2008; PackageReference: PDIP300-PA8; Publisher: Altium Limited; PackageDescription: 8-Lead Plastic Dual In-Line (PA) - 300 mil Body [PDIP]; Code_JEDEC: MS-001-BA; ComponentLink1Description: Manufacturer Link; ComponentLink1URL: http://www.microchip.com; ComponentLink2Description: Datasheet; ComponentLink2URL: http://ww1.microchip.com/downloads/en/DeviceDoc/21421d.pdf; ComponentLink3Description: Packaging Specification; ComponentLink3URL: http://ww1.microchip.com/downloads/en/PackagingSpec/00049AW.pdf
footprint PDIP300-PA8 (DIP, 8-Leads, Row Spacing 7.62mm, Pitch 2.54mm, Body 9.5x6.6mm)
part A pins: 2 INA (in), 7 ~{OUTA} (out)
part B pins: 4 INB (in), 5 OUTB (out)
part C pins: 1 NC, 3 GND (power), 6 VDD (power), 8 NC

## TC4425VMF
designator U?
3A Dual High-Speed Power MOSFET Driver, Complementary, Extended Temperature; Published: 29-Jan-2009; DatasheetVersion: rev D, Sep-2004; PackageVersion: revAW, Oct-2008; PackageReference: DFN-MF8; Publisher: Altium Limited; PackageDescription: 8-Lead Plastic Dual Flat, No Lead Package (MF) - 3x3x0.9mm Body [DFN]; ComponentLink1Description: Manufacturer Link; ComponentLink1URL: http://www.microchip.com; ComponentLink2Description: Datasheet; ComponentLink2URL: http://ww1.microchip.com/downloads/en/DeviceDoc/21421d.pdf; ComponentLink3Description: Packaging Specification; ComponentLink3URL: http://ww1.microchip.com/downloads/en/PackagingSpec/00049AW.pdf
footprint DFN-MF8 (SON, 8-Leads, Body 3x3mm, Pitch 0.65mm, Microchip Recommended)
part A pins: 2 INA (in), 7 ~{OUTA} (out)
part B pins: 4 INB (in), 5 OUTB (out)
part C pins: 1 NC, 3 GND (power), 6 VDD (power), 8 NC, 9 Thermal Pad

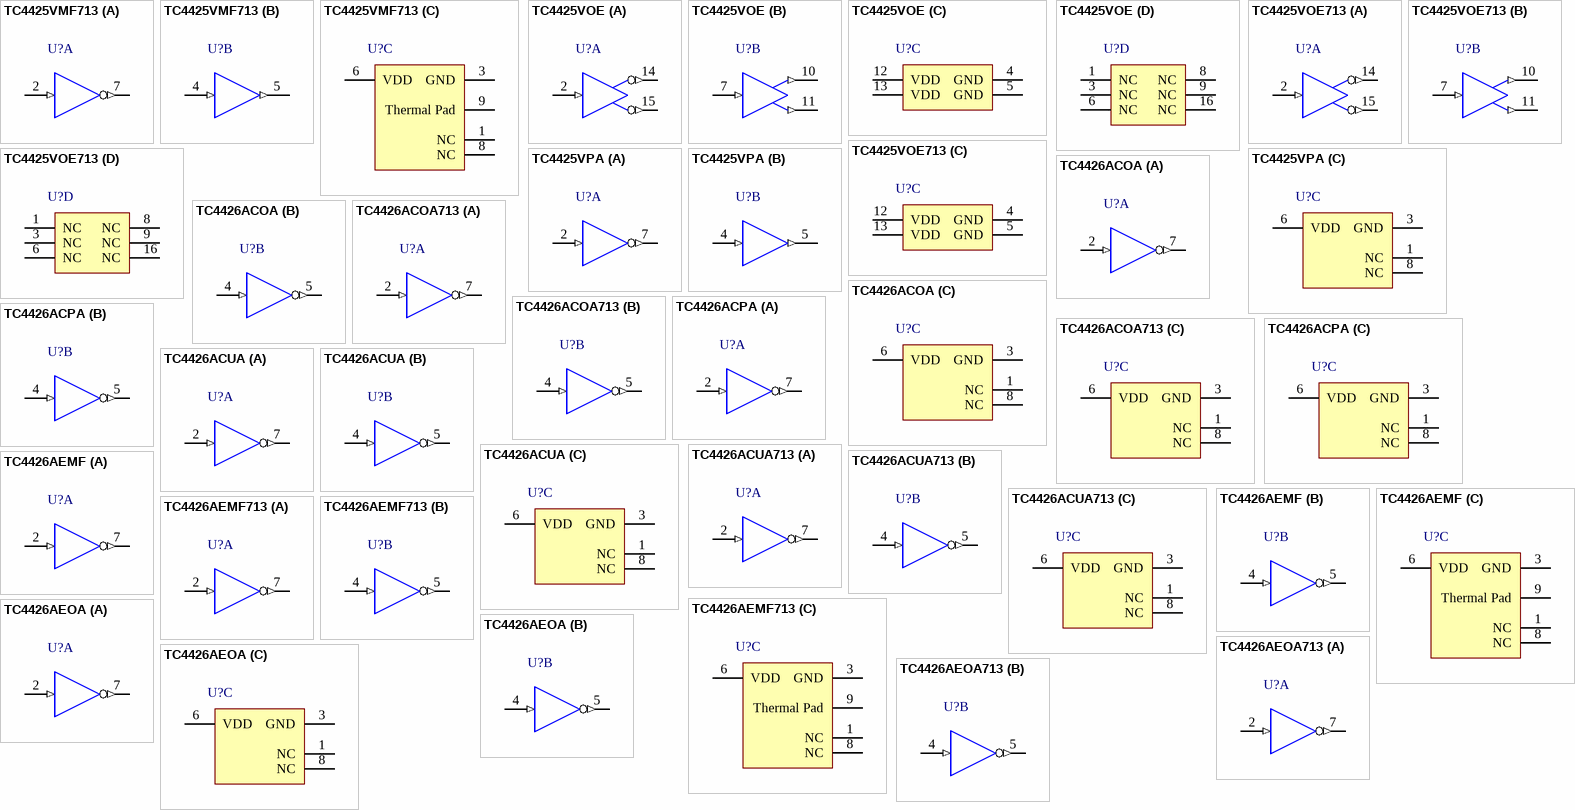
[diagram p17: symbols TC4425VMF713 to TC4426AEOA713]

## TC4425VMF713
designator U?
3A Dual High-Speed Power MOSFET Driver, Complementary, Extended Temperature, Tape and Reel; Published: 29-Jan-2009; DatasheetVersion: rev D, Sep-2004; PackageVersion: revAW, Oct-2008; PackageReference: DFN-MF8; Publisher: Altium Limited; PackageDescription: 8-Lead Plastic Dual Flat, No Lead Package (MF) - 3x3x0.9mm Body [DFN]; ComponentLink1Description: Manufacturer Link; ComponentLink1URL: http://www.microchip.com; ComponentLink2Description: Datasheet; ComponentLink2URL: http://ww1.microchip.com/downloads/en/DeviceDoc/21421d.pdf; ComponentLink3Description: Packaging Specification; ComponentLink3URL: http://ww1.microchip.com/downloads/en/PackagingSpec/00049AW.pdf
footprint DFN-MF8 (SON, 8-Leads, Body 3x3mm, Pitch 0.65mm, Microchip Recommended)
part A pins: 2 INA (in), 7 ~{OUTA} (out)
part B pins: 4 INB (in), 5 OUTB (out)
part C pins: 1 NC, 3 GND (power), 6 VDD (power), 8 NC, 9 Thermal Pad

## TC4425VOE
designator U?
3A Dual High-Speed Power MOSFET Driver, Complementary, Extended Temperature; Published: 29-Jan-2009; DatasheetVersion: rev D, Sep-2004; PackageVersion: revAW, Oct-2008; PackageReference: SOIC-OE16; Publisher: Altium Limited; PackageDescription: 16-Lead Plastic Small Outline (OE) - Wide 7.50mm Body [SOIC]; Code_JEDEC: MS-013-AA; Code_IPC: SOIC127P1030-16; ComponentLink1Description: Manufacturer Link; ComponentLink1URL: http://www.microchip.com; ComponentLink2Description: Datasheet; ComponentLink2URL: http://ww1.microchip.com/downloads/en/DeviceDoc/21421d.pdf; ComponentLink3Description: Packaging Specification; ComponentLink3URL: http://ww1.microchip.com/downloads/en/PackagingSpec/00049AW.pdf
footprint SOIC-OE16_N (SOIC, 16-Leads, Body 10.3x7.5mm, Pitch 1.27mm, IPC Medium Density)
footprint SOIC-OE16_L (SOIC, 16-Leads, Body 10.3x7.5mm, Pitch 1.27mm, IPC High Density)
footprint SOIC-OE16_M (SOIC, 16-Leads, Body 10.3x7.5mm, Pitch 1.27mm, IPC Low Density)
part A pins: 2 INA (in), 14 ~{OUTA} (out), 15 ~{OUTA} (out)
part B pins: 7 INB (in), 10 OUTB (out), 11 OUTB (out)
part C pins: 4 GND (power), 5 GND (power), 12 VDD (power), 13 VDD (power)
part D pins: 1 NC, 3 NC, 6 NC, 8 NC, 9 NC, 16 NC

## TC4425VOE713
designator U?
3A Dual High-Speed Power MOSFET Driver, Complementary, Extended Temperature, Tape and Reel; Published: 29-Jan-2009; DatasheetVersion: rev D, Sep-2004; PackageVersion: revAW, Oct-2008; PackageReference: SOIC-OE16; Publisher: Altium Limited; PackageDescription: 16-Lead Plastic Small Outline (OE) - Wide 7.50mm Body [SOIC]; Code_JEDEC: MS-013-AA; Code_IPC: SOIC127P1030-16; ComponentLink1Description: Manufacturer Link; ComponentLink1URL: http://www.microchip.com; ComponentLink2Description: Datasheet; ComponentLink2URL: http://ww1.microchip.com/downloads/en/DeviceDoc/21421d.pdf; ComponentLink3Description: Packaging Specification; ComponentLink3URL: http://ww1.microchip.com/downloads/en/PackagingSpec/00049AW.pdf
footprint SOIC-OE16_N (SOIC, 16-Leads, Body 10.3x7.5mm, Pitch 1.27mm, IPC Medium Density)
footprint SOIC-OE16_L (SOIC, 16-Leads, Body 10.3x7.5mm, Pitch 1.27mm, IPC High Density)
footprint SOIC-OE16_M (SOIC, 16-Leads, Body 10.3x7.5mm, Pitch 1.27mm, IPC Low Density)
part A pins: 2 INA (in), 14 ~{OUTA} (out), 15 ~{OUTA} (out)
part B pins: 7 INB (in), 10 OUTB (out), 11 OUTB (out)
part C pins: 4 GND (power), 5 GND (power), 12 VDD (power), 13 VDD (power)
part D pins: 1 NC, 3 NC, 6 NC, 8 NC, 9 NC, 16 NC

## TC4425VPA
designator U?
3A Dual High-Speed Power MOSFET Driver, Complementary, Extended Temperature; Published: 29-Jan-2009; DatasheetVersion: rev D, Sep-2004; PackageVersion: revAW, Oct-2008; PackageReference: PDIP300-PA8; Publisher: Altium Limited; PackageDescription: 8-Lead Plastic Dual In-Line (PA) - 300 mil Body [PDIP]; Code_JEDEC: MS-001-BA; ComponentLink1Description: Manufacturer Link; ComponentLink1URL: http://www.microchip.com; ComponentLink2Description: Datasheet; ComponentLink2URL: http://ww1.microchip.com/downloads/en/DeviceDoc/21421d.pdf; ComponentLink3Description: Packaging Specification; ComponentLink3URL: http://ww1.microchip.com/downloads/en/PackagingSpec/00049AW.pdf
footprint PDIP300-PA8 (DIP, 8-Leads, Row Spacing 7.62mm, Pitch 2.54mm, Body 9.5x6.6mm)
part A pins: 2 INA (in), 7 ~{OUTA} (out)
part B pins: 4 INB (in), 5 OUTB (out)
part C pins: 1 NC, 3 GND (power), 6 VDD (power), 8 NC

## TC4426ACOA
designator U?
1.5A Dual High-Speed Power MOSFET Driver, Inverting, Commercial Temperature; Published: 29-Jan-2009; DatasheetVersion: rev F, Jan-2006; PackageVersion: revAW, Oct-2008; PackageReference: SOIC-OA8; Publisher: Altium Limited; PackageDescription: 8-Lead Plastic Small Outline (OA) - Narrow, 3.90mm Body [SOIC]; Code_IPC: SOIC127P600-8; ComponentLink1Description: Manufacturer Link; ComponentLink1URL: http://www.microchip.com; ComponentLink2Description: Datasheet; ComponentLink2URL: http://ww1.microchip.com/downloads/en/DeviceDoc/21423F.pdf; ComponentLink3Description: Packaging Specification; ComponentLink3URL: http://ww1.microchip.com/downloads/en/PackagingSpec/00049AW.pdf
footprint SOIC-OA8_N (SOIC, 8-Leads, Body 4.9x3.9mm, Pitch 1.27mm, IPC Medium Density)
footprint SOIC-OA8_L (SOIC, 8-Leads, Body 4.9x3.9mm, Pitch 1.27mm, IPC High Density)
footprint SOIC-OA8_M (SOIC, 8-Leads, Body 4.9x3.9mm, Pitch 1.27mm, IPC Low Density)
part A pins: 2 INA (in), 7 ~{OUTA} (out)
part B pins: 4 INB (in), 5 ~{OUTB} (out)
part C pins: 1 NC, 3 GND (power), 6 VDD (power), 8 NC

## TC4426ACOA713
designator U?
1.5A Dual High-Speed Power MOSFET Driver, Inverting, Commercial Temperature, Tape and Reel; Published: 29-Jan-2009; DatasheetVersion: rev D, Jan-2006; PackageVersion: revAW, Oct-2008; PackageReference: SOIC-OA8; Publisher: Altium Limited; PackageDescription: 8-Lead Plastic Small Outline (OA) - Narrow, 3.90mm Body [SOIC]; Code_IPC: SOIC127P600-8; ComponentLink1Description: Manufacturer Link; ComponentLink1URL: http://www.microchip.com; ComponentLink2Description: Datasheet; ComponentLink2URL: http://ww1.microchip.com/downloads/en/DeviceDoc/21422D.pdf; ComponentLink3Description: Packaging Specification; ComponentLink3URL: http://ww1.microchip.com/downloads/en/PackagingSpec/00049AW.pdf
footprint SOIC-OA8_N (SOIC, 8-Leads, Body 4.9x3.9mm, Pitch 1.27mm, IPC Medium Density)
footprint SOIC-OA8_L (SOIC, 8-Leads, Body 4.9x3.9mm, Pitch 1.27mm, IPC High Density)
footprint SOIC-OA8_M (SOIC, 8-Leads, Body 4.9x3.9mm, Pitch 1.27mm, IPC Low Density)
part A pins: 2 INA (in), 7 ~{OUTA} (out)
part B pins: 4 INB (in), 5 ~{OUTB} (out)
part C pins: 1 NC, 3 GND (power), 6 VDD (power), 8 NC

## TC4426ACPA
designator U?
1.5A Dual High-Speed Power MOSFET Driver, Inverting, Commercial Temperature; Published: 29-Jan-2009; DatasheetVersion: rev F, Jan-2006; PackageVersion: revAW, Oct-2008; PackageReference: PDIP300-PA8; Publisher: Altium Limited; PackageDescription: 8-Lead Plastic Dual In-Line (PA) - 300 mil Body [PDIP]; Code_JEDEC: MS-001-BA; ComponentLink1Description: Manufacturer Link; ComponentLink1URL: http://www.microchip.com; ComponentLink2Description: Datasheet; ComponentLink2URL: http://ww1.microchip.com/downloads/en/DeviceDoc/21423F.pdf; ComponentLink3Description: Packaging Specification; ComponentLink3URL: http://ww1.microchip.com/downloads/en/PackagingSpec/00049AW.pdf
footprint PDIP300-PA8 (DIP, 8-Leads, Row Spacing 7.62mm, Pitch 2.54mm, Body 9.5x6.6mm)
part A pins: 2 INA (in), 7 ~{OUTA} (out)
part B pins: 4 INB (in), 5 ~{OUTB} (out)
part C pins: 1 NC, 3 GND (power), 6 VDD (power), 8 NC

## TC4426ACUA
designator U?
1.5A Dual High-Speed Power MOSFET Driver, Inverting, Commercial Temperature; Published: 29-Jan-2009; DatasheetVersion: rev F, Jan-2006; PackageVersion: revAW, Oct-2008; PackageReference: MSOP-UA8; Publisher: Altium Limited; PackageDescription: 8-Lead Plastic Micro Small Outline Package (UA) [MSOP]; Code_JEDEC: MO-187-AA; ComponentLink1Description: Manufacturer Link; ComponentLink1URL: http://www.microchip.com; ComponentLink2Description: Datasheet; ComponentLink2URL: http://ww1.microchip.com/downloads/en/DeviceDoc/21423F.pdf; ComponentLink3Description: Packaging Specification; ComponentLink3URL: http://ww1.microchip.com/downloads/en/PackagingSpec/00049AW.pdf
footprint MSOP-UA8_N (TSOP, 8-Leads, Body 3x3mm, Pitch 0.65mm, IPC Medium Density)
footprint MSOP-UA8_L (TSOP, 8-Leads, Body 3x3mm, Pitch 0.65mm, IPC High Density)
footprint MSOP-UA8_M (TSOP, 8-Leads, Body 3x3mm, Pitch 0.65mm, IPC Low Density)
part A pins: 2 INA (in), 7 ~{OUTA} (out)
part B pins: 4 INB (in), 5 ~{OUTB} (out)
part C pins: 1 NC, 3 GND (power), 6 VDD (power), 8 NC

## TC4426ACUA713
designator U?
1.5A Dual High-Speed Power MOSFET Driver, Inverting, Commercial Temperature, Tape and Reel; Published: 29-Jan-2009; DatasheetVersion: rev F, Jan-2006; PackageVersion: revAW, Oct-2008; PackageReference: MSOP-UA8; Publisher: Altium Limited; PackageDescription: 8-Lead Plastic Micro Small Outline Package (UA) [MSOP]; Code_JEDEC: MO-187-AA; ComponentLink1Description: Manufacturer Link; ComponentLink1URL: http://www.microchip.com; ComponentLink2Description: Datasheet; ComponentLink2URL: http://ww1.microchip.com/downloads/en/DeviceDoc/21423F.pdf; ComponentLink3Description: Packaging Specification; ComponentLink3URL: http://ww1.microchip.com/downloads/en/PackagingSpec/00049AW.pdf
footprint MSOP-UA8_N (TSOP, 8-Leads, Body 3x3mm, Pitch 0.65mm, IPC Medium Density)
footprint MSOP-UA8_L (TSOP, 8-Leads, Body 3x3mm, Pitch 0.65mm, IPC High Density)
footprint MSOP-UA8_M (TSOP, 8-Leads, Body 3x3mm, Pitch 0.65mm, IPC Low Density)
part A pins: 2 INA (in), 7 ~{OUTA} (out)
part B pins: 4 INB (in), 5 ~{OUTB} (out)
part C pins: 1 NC, 3 GND (power), 6 VDD (power), 8 NC

## TC4426AEMF
designator U?
1.5A Dual High-Speed Power MOSFET Driver, Inverting, Industrial Temperature; Published: 29-Jan-2009; DatasheetVersion: rev F, Jan-2006; PackageVersion: revAW, Oct-2008; PackageReference: DFN-MF8; Publisher: Altium Limited; PackageDescription: 8-Lead Plastic Dual Flat, No Lead Package (MF) - 3x3x0.9mm Body [DFN]; ComponentLink1Description: Manufacturer Link; ComponentLink1URL: http://www.microchip.com; ComponentLink2Description: Datasheet; ComponentLink2URL: http://ww1.microchip.com/downloads/en/DeviceDoc/21423F.pdf; ComponentLink3Description: Packaging Specification; ComponentLink3URL: http://ww1.microchip.com/downloads/en/PackagingSpec/00049AW.pdf
footprint DFN-MF8 (SON, 8-Leads, Body 3x3mm, Pitch 0.65mm, Microchip Recommended)
part A pins: 2 INA (in), 7 ~{OUTA} (out)
part B pins: 4 INB (in), 5 ~{OUTB} (out)
part C pins: 1 NC, 3 GND (power), 6 VDD (power), 8 NC, 9 Thermal Pad

## TC4426AEMF713
designator U?
1.5A Dual High-Speed Power MOSFET Driver, Inverting, Industrial Temperature, Tape and Reel; Published: 29-Jan-2009; DatasheetVersion: rev F, Jan-2006; PackageVersion: revAW, Oct-2008; PackageReference: DFN-MF8; Publisher: Altium Limited; PackageDescription: 8-Lead Plastic Dual Flat, No Lead Package (MF) - 3x3x0.9mm Body [DFN]; ComponentLink1Description: Manufacturer Link; ComponentLink1URL: http://www.microchip.com; ComponentLink2Description: Datasheet; ComponentLink2URL: http://ww1.microchip.com/downloads/en/DeviceDoc/21423F.pdf; ComponentLink3Description: Packaging Specification; ComponentLink3URL: http://ww1.microchip.com/downloads/en/PackagingSpec/00049AW.pdf
footprint DFN-MF8 (SON, 8-Leads, Body 3x3mm, Pitch 0.65mm, Microchip Recommended)
part A pins: 2 INA (in), 7 ~{OUTA} (out)
part B pins: 4 INB (in), 5 ~{OUTB} (out)
part C pins: 1 NC, 3 GND (power), 6 VDD (power), 8 NC, 9 Thermal Pad

## TC4426AEOA
designator U?
1.5A Dual High-Speed Power MOSFET Driver, Inverting, Industrial Temperature; Published: 29-Jan-2009; DatasheetVersion: rev F, Jan-2006; PackageVersion: revAW, Oct-2008; PackageReference: SOIC-OA8; Publisher: Altium Limited; PackageDescription: 8-Lead Plastic Small Outline (OA) - Narrow, 3.90mm Body [SOIC]; Code_IPC: SOIC127P600-8; ComponentLink1Description: Manufacturer Link; ComponentLink1URL: http://www.microchip.com; ComponentLink2Description: Datasheet; ComponentLink2URL: http://ww1.microchip.com/downloads/en/DeviceDoc/21423F.pdf; ComponentLink3Description: Packaging Specification; ComponentLink3URL: http://ww1.microchip.com/downloads/en/PackagingSpec/00049AW.pdf
footprint SOIC-OA8_N (SOIC, 8-Leads, Body 4.9x3.9mm, Pitch 1.27mm, IPC Medium Density)
footprint SOIC-OA8_L (SOIC, 8-Leads, Body 4.9x3.9mm, Pitch 1.27mm, IPC High Density)
footprint SOIC-OA8_M (SOIC, 8-Leads, Body 4.9x3.9mm, Pitch 1.27mm, IPC Low Density)
part A pins: 2 INA (in), 7 ~{OUTA} (out)
part B pins: 4 INB (in), 5 ~{OUTB} (out)
part C pins: 1 NC, 3 GND (power), 6 VDD (power), 8 NC

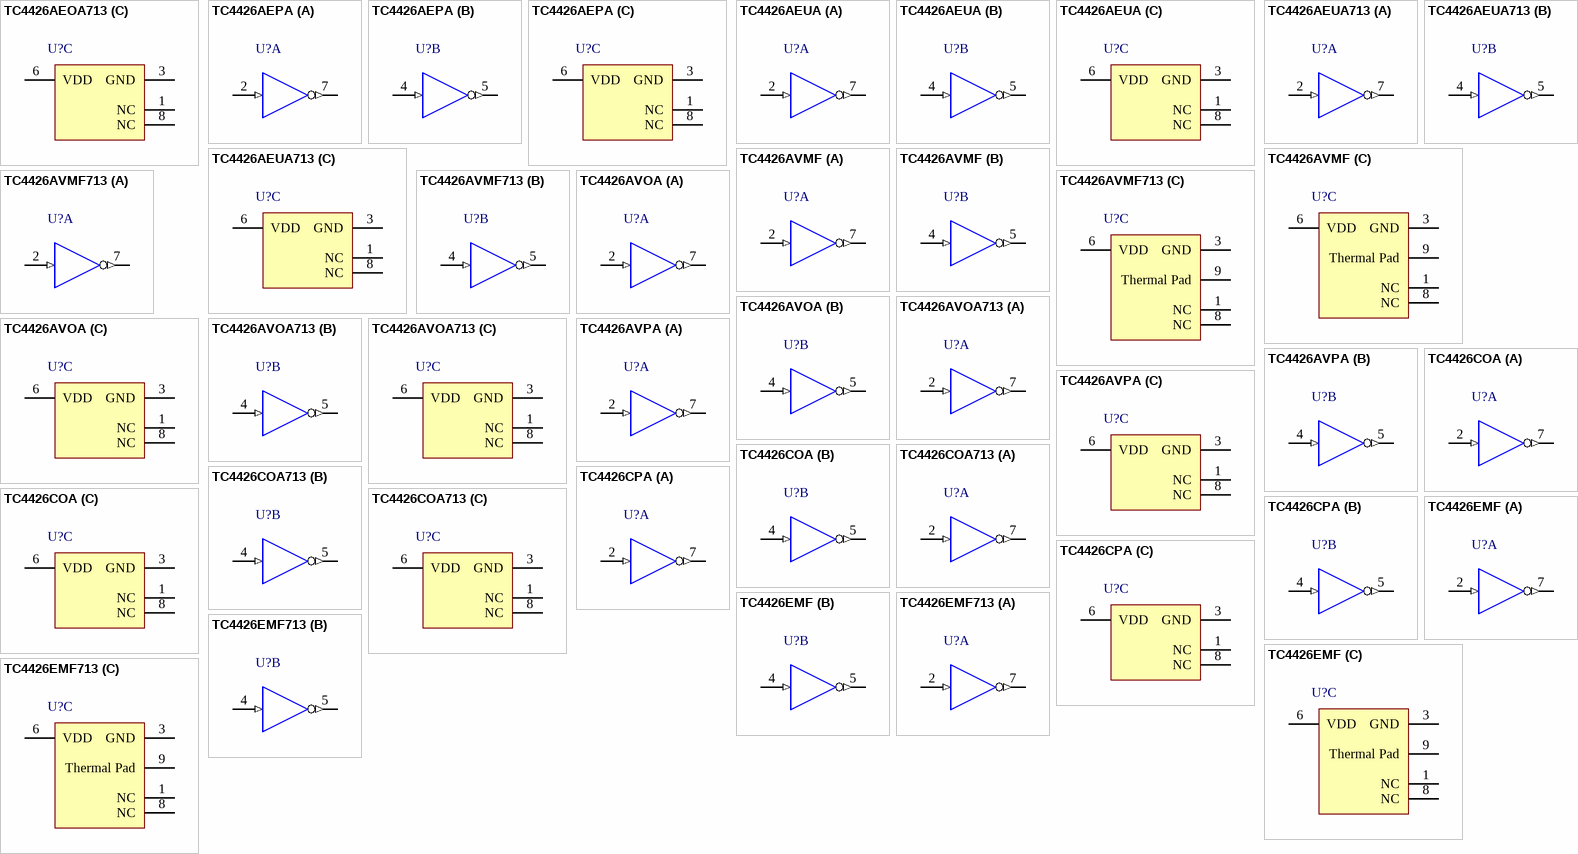
[diagram p18: symbols TC4426AEOA713 to TC4426EMF713]

## TC4426AEOA713
designator U?
1.5A Dual High-Speed Power MOSFET Driver, Inverting, Industrial Temperature, Tape and Reel; Published: 29-Jan-2009; DatasheetVersion: rev D, Jan-2006; PackageVersion: revAW, Oct-2008; PackageReference: SOIC-OA8; Publisher: Altium Limited; PackageDescription: 8-Lead Plastic Small Outline (OA) - Narrow, 3.90mm Body [SOIC]; Code_IPC: SOIC127P600-8; ComponentLink1Description: Manufacturer Link; ComponentLink1URL: http://www.microchip.com; ComponentLink2Description: Datasheet; ComponentLink2URL: http://ww1.microchip.com/downloads/en/DeviceDoc/21422D.pdf; ComponentLink3Description: Packaging Specification; ComponentLink3URL: http://ww1.microchip.com/downloads/en/PackagingSpec/00049AW.pdf
footprint SOIC-OA8_N (SOIC, 8-Leads, Body 4.9x3.9mm, Pitch 1.27mm, IPC Medium Density)
footprint SOIC-OA8_L (SOIC, 8-Leads, Body 4.9x3.9mm, Pitch 1.27mm, IPC High Density)
footprint SOIC-OA8_M (SOIC, 8-Leads, Body 4.9x3.9mm, Pitch 1.27mm, IPC Low Density)
part A pins: 2 INA (in), 7 ~{OUTA} (out)
part B pins: 4 INB (in), 5 ~{OUTB} (out)
part C pins: 1 NC, 3 GND (power), 6 VDD (power), 8 NC

## TC4426AEPA
designator U?
1.5A Dual High-Speed Power MOSFET Driver, Inverting, Industrial Temperature; Published: 29-Jan-2009; DatasheetVersion: rev F, Jan-2006; PackageVersion: revAW, Oct-2008; PackageReference: PDIP300-PA8; Publisher: Altium Limited; PackageDescription: 8-Lead Plastic Dual In-Line (PA) - 300 mil Body [PDIP]; Code_JEDEC: MS-001-BA; ComponentLink1Description: Manufacturer Link; ComponentLink1URL: http://www.microchip.com; ComponentLink2Description: Datasheet; ComponentLink2URL: http://ww1.microchip.com/downloads/en/DeviceDoc/21423F.pdf; ComponentLink3Description: Packaging Specification; ComponentLink3URL: http://ww1.microchip.com/downloads/en/PackagingSpec/00049AW.pdf
footprint PDIP300-PA8 (DIP, 8-Leads, Row Spacing 7.62mm, Pitch 2.54mm, Body 9.5x6.6mm)
part A pins: 2 INA (in), 7 ~{OUTA} (out)
part B pins: 4 INB (in), 5 ~{OUTB} (out)
part C pins: 1 NC, 3 GND (power), 6 VDD (power), 8 NC